# EAGLE library part LTC3726 (library PowerProducts)
Secondary-Side Synchronous Forward Controller
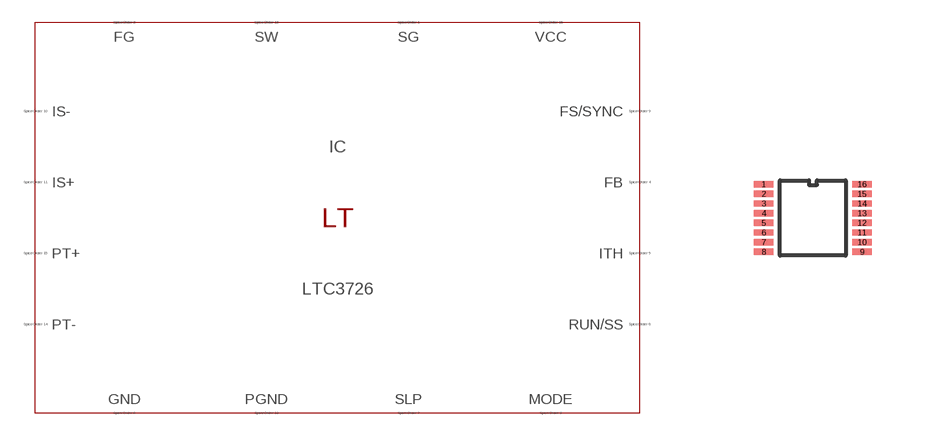
[diagram p301: symbol with the pads of SSOP16(GN); footprint SSOP16(GN)]

Designator prefix IC

## LTC3726 (SPICEMODEL: LTC3726.sub; SPICEPREFIX: X; VALUE2: LTC3726)  [SSOP16(GN)]
1  SG  pas
2  FG  pas
3  MODE  pas
4  FB  pas
5  ITH  pas
6  RUN/SS  pas
7  SLP  pas
8  GND  pas
9  FS/SYNC  pas
10  IS-  pas
11  IS+  pas
12  SW  pas
13  PGND  pas
14  PT-  pas
15  PT+  pas
16  VCC  pas

## Footprint SSOP16(GN) (pad centres in mm)
Package generated from: SSOP16(GN).asc (!PADS-POWERPCB-V5.0-BASIC! DESIGN DATABASE ASCII FILE 1.0) with :import-pads-powerpcb-v5.ulp Version 1.0.1 at 04.10.2012 14:11:37
smd 0.484 x 0.16: 1 -1.229,0.847; 2 -1.229,0.605; 3 -1.229,0.363; 4 -1.229,0.121; 5 -1.229,-0.121; 6 -1.229,-0.363; 7 -1.229,-0.605; 8 -1.229,-0.847; 9 1.229,-0.847; 10 1.229,-0.605; 11 1.229,-0.363; 12 1.229,-0.121; 13 1.229,0.121; 14 1.229,0.363; 15 1.229,0.605; 16 1.229,0.847